# Altium schematic symbol library connector.SchLib: 56 symbols
Pins are listed as number, name and electrical type; pins without a type are passive.

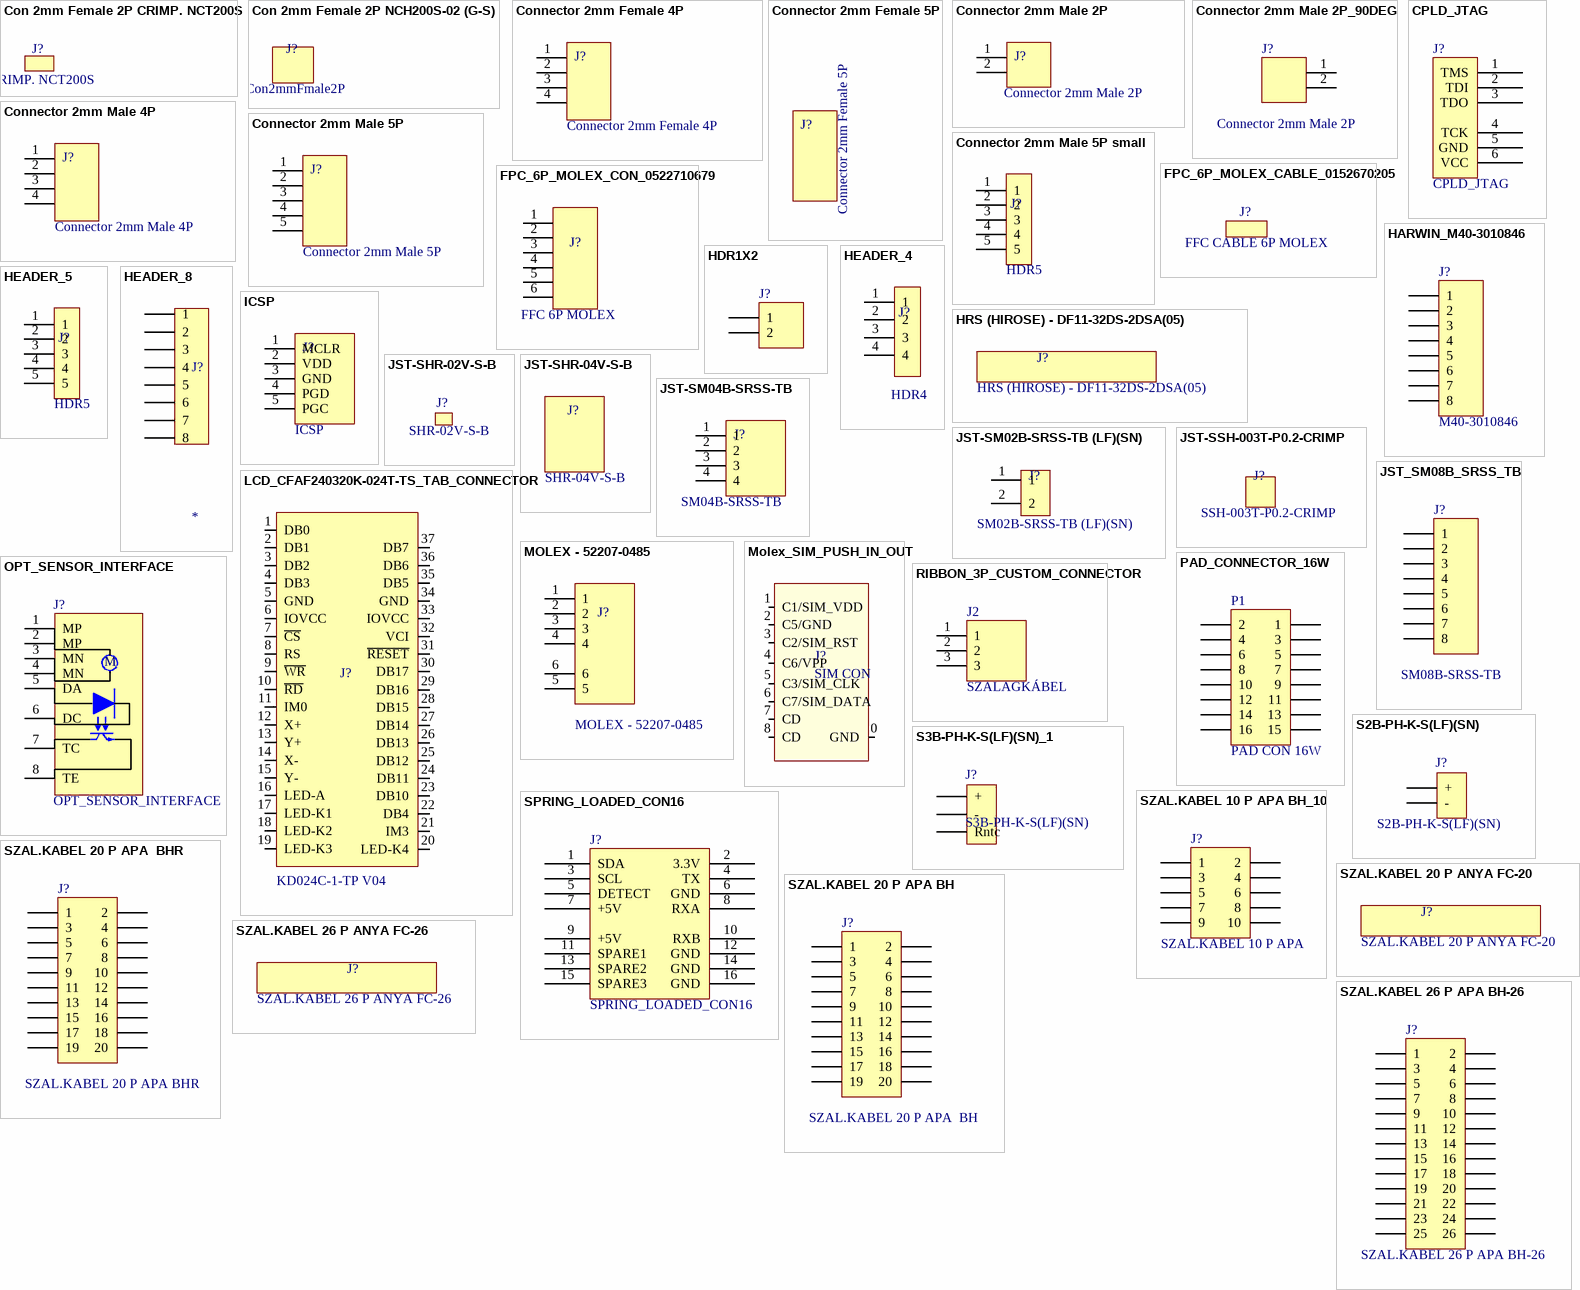
[diagram p0: symbols Con 2mm Female 2P CRIMP. NCT200S to SZAL.KABEL 26 P APA BH-26]

## Con 2mm Female 2P CRIMP. NCT200S
designator J?, comment CRIMP. NCT200S
TÁPCSATL. 2.00mm ANYA CRIMP. NCT200S-T2430 (G-S) AWG24-30 [43-00-25]; Distributor: Lomex; Order ID: 43-00-25; Price: 1.42; Value: CRIMP. NCT200S

## Con 2mm Female 2P NCH200S-02 (G-S)
designator J?  value Con2mmFmale2P  (hidden comment: Con 2mm Female 2P NCH200S-02 (G-S))
TÁPCSATL. 2.00mm 2P ANYA HÁZ NCH200S-02 (G-S) [43-17-34]; Distributor: Lomex; Order ID: 43-17-34; Price: 1.2

## Connector 2mm Female 4P
designator J?
TÁPCSATL. 2.00mm 4P APA 180° NCW200-04S (G-S) FORR. [43-16-05]; Distributor: Lomex; Order ID: 43-16-05; Price: 6.8; Value: Connector 2mm Female 4P
footprint HDR1X4_2MM
pins: 1, 2, 3, 4

## Connector 2mm Female 5P
designator J?
TÁPCSATL. 2.00mm 2P ANYA HÁZ NCH200S-05 (G-S) [43-00-26]; Distributor: Lomex; Order ID: 43-00-26; Price: 3; Value: Connector 2mm Female 5P

## Connector 2mm Male 2P
designator J?
TÁPCSATL. 2.00mm 2P APA 180° NCW200S-02S (G-S) FORR. [43-17-35]; Distributor: Lomex; Order ID: 43-17-35; Price: 2.5; Value: Connector 2mm Male 2P
footprint HDR1X2_2MM
pins: 1, 2

## Connector 2mm Male 2P_90DEG
designator J?, comment value Connector 2mm Male 2P  (hidden comment: Connector 2mm Male 2P_90)
TÁPCSATL. 2.00mm 2P APA 180° NCW200S-02S (G-S) FORR. [43-17-35]; Order ID: 9491856; Distributor: Farnell; Price: 35
footprint BAT_CON_90
pins: 1, 2

## Connector 2mm Male 4P
designator J?
TÁPCSATL. 2.00mm 4P APA 180° NCW200-04S (G-S) FORR. [43-16-05]; Distributor: Lomex; Order ID: 43-16-05; Price: 6.8; Value: Connector 2mm Male 4P
footprint HDR1X4_2MM
pins: 1, 2, 3, 4

## Connector 2mm Male 5P
designator J?
TÁPCSATL. 2.00mm 5P ANYA HÁZ NCH200S-05 (G-S) [43-00-26]; Distributor: Lomex; Order ID: 43-00-26; Price: 3; Value: Connector 2mm Male 5P
footprint HDR1X5_2MM
pins: 1, 2, 3, 4, 5

## Connector 2mm Male 5P small
designator J?  value HDR5  (hidden comment: *)
HEADER, 5 pins; Distributor: *; Order ID: *; Price: *
footprint HDR1X5_2MM_SMALL
pins: 1, 2, 3, 4, 5

## CPLD_JTAG
designator J?
Cpld jtag connector; Value: *; Distributor: *; Order ID: *; Price: *
footprint HDR1X6_2MM
footprint HDR1X6
pins: 1 TMS, 2 TDI, 3 TDO, 4 TCK, 5 GND, 6 VCC

## FPC_6P_MOLEX_CABLE_0152670205
designator J?  value FFC CABLE 6P MOLEX  (hidden comment: FPC_6P_MOLEX_CABLE_0152670205)
PREMO-FLEX 1.00 JMPR LGT 76 TYPE; Order ID: WM10537-ND; Distributor: Digikey; Price: 450

## FPC_6P_MOLEX_CON_0522710679
designator J?  value FFC 6P MOLEX  (hidden comment: FPC_6P_MOLEX_CON_0522710679)
CONN FPC BOTTOM 6POS 1.00MM R/A; Order ID: WM7955CT-ND; Distributor: Digikey; Price: 300
footprint FPC_6P_1MM_MOLEX (Molex FPC 6pin connector.)
pins: 1, 2, 3, 4, 5, 6

## HARWIN_M40-3010846
designator J?, comment M40-3010846
HARWIN - M40-3010846 - HEADER, VERTICAL, SMT, 8WAY; Order ID: 8729018; Distributor: Farnell; Price: 232; Value: M40-3010846
footprint HDR1X8
footprint HARVIN_M40_8WAY (8way header connector.)
pins: 1, 2, 3, 4, 5, 6, 7, 8
2 alternate drawings of the same symbol

## HDR1X2
designator J?  (value not drawn)
Header, 2-Pin
footprint HDR1X2 _2mm
pins: 1, 2
2 alternate drawings of the same symbol

## HEADER_4
designator J?  value HDR4  (hidden comment: *)
HEADER, 4 pins; Distributor: *; Order ID: *; Price: *
footprint HDR1X4
pins: 1, 2, 3, 4

## HEADER_5
designator J?  value HDR5  (hidden comment: *)
HEADER, 5 pins; Distributor: *; Order ID: *; Price: *
footprint HDR1X5
pins: 1, 2, 3, 4, 5

## HEADER_8
designator J?
Header, 8-Pin; Distributor: *; Order ID: *; Price: *; Value: *
footprint HDR1X8
footprint HDR1X8_1_6mm
pins: 1, 2, 3, 4, 5, 6, 7, 8
2 alternate drawings of the same symbol

## HRS (HIROSE) - DF11-32DS-2DSA(05)
designator J?
HRS (HIROSE) - DF11-32DS-2DSA(05) - RECEPTACLE, 2MM, 32WAY; Order ID: 1688332; Distributor: Farnell; Price: 494; Value: HRS (HIROSE) - DF11-32DS-2DSA(05)

## ICSP
designator J?  value ICSP  (hidden comment: *)
ICSP; Distributor: *; Order ID: *; Price: *
footprint HDR1X5
pins: 1 MCLR, 2 VDD, 3 GND, 4 PGD, 5 PGC

## JST-SHR-02V-S-B
designator J?  value SHR-02V-S-B  (hidden comment: *)
JST (JAPAN SOLDERLESS TERMINALS)  SHR-02V-S-B  CONNECTOR HOUSING, 2WAY; Order ID: 1679108; Distributor: Farnell; Price: 20

## JST-SHR-04V-S-B
designator J?  value SHR-04V-S-B  (hidden comment: *)
JST (JAPAN SOLDERLESS TERMINALS) - SHR-04V-S-B - CONNECTOR HOUSING, 4WAY; Order ID: 1679110; Distributor: Farnell; Price: 40

## JST-SM02B-SRSS-TB (LF)(SN)
designator J?  value SM02B-SRSS-TB (LF)(SN)  (hidden comment: *)
JST (JAPAN SOLDERLESS TERMINALS) - SM02B-SRSS-TB (LF)(SN) HEADER, SH, 2WAY, SIDE, 1MM, TIN; Order ID: 1679117; Distributor: Farnell; Price: 123
footprint JST-SM02B-SRSS-TB (4 way header connector.)
pins: 1, 2

## JST-SM04B-SRSS-TB
designator J?  value SM04B-SRSS-TB  (hidden comment: *)
JST (JAPAN SOLDERLESS TERMINALS) - SM04B-SRSS-TB - HEADER, SH, 4WAY, SIDE, 1MM, TIN; Order ID: 1830839; Distributor: Farnell; Price: 123
footprint JST-SM04B-SRSS-TB (4 way header connector.)
pins: 1, 2, 3, 4

## JST-SSH-003T-P0.2-CRIMP
designator J?  value SSH-003T-P0.2-CRIMP  (hidden comment: *)
JST (JAPAN SOLDERLESS TERMINALS) - SSH-003T-P0.2 - CRIMP TERMINAL, SH SERIES; Order ID: 1679142; Distributor: Farnell; Price: 20

## JST_SM08B_SRSS_TB
designator J?  value SM08B-SRSS-TB  (hidden comment: *)
JST (JAPAN SOLDERLESS TERMINALS) - SM08B-SRSS-TB(LF)(SN) - HEADER, R/A, 8WAY; Order ID: 1679124; Distributor: Farnell; Price: 210
footprint HDR1X8
footprint JST_SM08B_SRSS_TB (SM08B-SRSS-TB(LF)(SN) - HEADER, R/A, 8WAY)
pins: 1, 2, 3, 4, 5, 6, 7, 8
2 alternate drawings of the same symbol

## LCD_CFAF240320K-024T-TS_TAB_CONNECTOR
designator J?  value KD024C-1-TP V04  (hidden comment: *)
CFAF240320K-024T-TS LCD TAB_CONNECTOR; Manufacturer: Shenzhen Startek Electronic Technology Co.,Ltd; Distributor: http://en.lcdlcd.com/; Order ID: KD024C-1-TP V04; Price: 1700; webpage: http://en.lcdlcd.com/te_product_a/2012-02-23/1633.chtml
footprint LCD37P_TOP_STRAIGHT_TAB_CONNECTOR (CFAF240320K-024T-TS LCD TAB_CONNECTOR)
footprint LCD37P_BOTTOM_BACKCURVE_TAB_CONNECTOR (CFAF240320K-024T-TS LCD TAB_CONNECTOR)
pins: 1 DB0 (io), 2 DB1 (io), 3 DB2 (io), 4 DB3 (io), 5 GND (power), 6 IOVCC (power), 7 ~{CS} (in), 8 RS (in), 9 ~{WR} (in), 10 ~{RD} (in), 11 IM0 (in), 12 X+, 13 Y+, 14 X-, 15 Y-, 16 LED-A, 17 LED-K1, 18 LED-K2, 19 LED-K3, 20 LED-K4, 21 IM3 (in), 22 DB4 (io), 23 DB10 (io), 24 DB11 (io), 25 DB12 (io), 26 DB13 (io), 27 DB14 (io), 28 DB15 (io), 29 DB16 (io), 30 DB17 (io), 31 ~{RESET} (in), 32 VCI (power), 33 IOVCC (power), 34 GND (power), 35 DB5 (io), 36 DB6 (io), 37 DB7 (io)

## MOLEX - 52207-0485
designator J?  value MOLEX - 52207-0485  (hidden comment: *)
MOLEX - 52207-0485 - CONNECTOR, PCB, 4WAY FPC; Order ID: 1463013; Distributor: Farnell; Price: 210
footprint MOLEX - 52207-0485 (MOLEX - 52207-0485 FPC CONNECTOR, PCB, 4WAY)
pins: 1, 2, 3, 4, 5, 6

## Molex_SIM_PUSH_IN_OUT
designator J?, comment SIM CON
Molex, Sim connector, 0475531001, CONN CARD HOLDER SIM 6POS SMD; Order ID: WM6739DKR-ND; Distributor: Digikey; Price: 750; Value: SIM CONNECTOR
footprint Molex_0475531001 (Molex sim connector, without sim present pin)
pins: 0 GND, 1 C1/SIM_VDD, 2 C5/GND, 3 C2/SIM_RST, 4 C6/VPP, 5 C3/SIM_CLK, 6 C7/SIM_DATA, 7 CD, 8 CD

## OPT_SENSOR_INTERFACE
designator J?
JST (JAPAN SOLDERLESS TERMINALS) - SM08B-SRSS-TB(LF)(SN) - HEADER, R/A, 8WAY, OPT_SENSOR_INTERFACE; Order ID: 1679124; Distributor: Farnell; Price: 250; Value: HEADER, R/A, 8WAY
footprint JST_SM08B_SRSS_TB (SM08B-SRSS-TB(LF)(SN) - HEADER, R/A, 8WAY)
pins: 1 MP, 2 MP, 3 MN, 4 MN, 5 DA, 6 DC, 7 TC, 8 TE
2 alternate drawings of the same symbol
text: M

## PAD_CONNECTOR_16W
designator P1, comment PAD CON 16W
802-10-016-30-507101 ---- PRECIDIP; Order ID: 702-0464; Value: PAD CON 16W; Distributor: RS; Price: 700
footprint PAD_CONNECTOR_16W (CCM PreciDIP connector)
pins: 1, 2, 3, 4, 5, 6, 7, 8, 9, 10, 11, 12, 13, 14, 15, 16

## RIBBON_3P_CUSTOM_CONNECTOR
designator J2, comment SZALAGKÁBEL
SZALAGKÁBEL 30x(7x0.127mm) FC050-30G AWG28 GREY 1/2# (30.5 fm) [54-00-73]; Value: SZALAGKÁBEL, attention1 enough forever!; Distributor: Lomex; Order ID: 54-00-73; Price: 3.10
footprint RIBBON_CABLE_CON_3P (Footprint not found)
pins: 1, 2, 3

## S2B-PH-K-S(LF)(SN)
designator J?
CONN HEADER PH SIDE 2POS 2MM (battery con); Order ID: 455-1719-ND; Distributor: Digikey; Price: 35.6; Value: S2B-PH-K-S(LF)(SN)
footprint BAT_CON (S2B-PH-K-S)
pins: 1 +, 2 -

## S3B-PH-K-S(LF)(SN)_1
designator J?, comment S3B-PH-K-S(LF)(SN)
JST (JAPAN SOLDERLESS TERMINALS) - S3B-PH-K-S (LF)(SN) - CONNECTOR, HEADER, THT, R/A, 2MM, 3WAY; Order ID: 455-1720-ND; Distributor: Digikey; Price: 38; Value: S3B-PH-K-S(LF)(SN)
footprint BAT_CON_3P (S3B-PH-K-S)
pins: 1 +, 2 -, 3 Rntc

## SPRING_LOADED_CON16
designator J?
16w spring loaded conn 2.54mm D/R solder; Order ID: 702-0562; Value: 813-S1-016-10-017101; Distributor: RS; Price: 1700
footprint SPRING_CON_16P
pins: 1 SDA, 2 3.3V, 3 SCL, 4 TX, 5 DETECT, 6 GND, 7 +5V, 8 RXA, 9 +5V, 10 RXB, 11 SPARE1, 12 GND, 13 SPARE2, 14 GND, 15 SPARE3, 16 GND

## SZAL.KABEL 10 P APA BH_10
designator J?  value SZAL.KABEL 10 P APA  (hidden comment: SZAL.KABEL 10 P APA BH_10)
SZAL.KABEL 10 P APA BH-10 (T-T) [43-00-51]; Distributor: Lomex; Order ID: 43-00-51; Price: 15
footprint SZAL_KABEL_10P_APA
pins: 1, 2, 3, 4, 5, 6, 7, 8, 9, 10

## SZAL.KABEL 20 P ANYA FC-20
designator J?
SZAL.KABEL 20 P ANYA FC-20 (T-T) TEHERMENTESITÕVEL LENGÕ [43-01-10]; Distributor: Lomex; Order ID: 43-01-10; Price: 28; Value: SZAL.KABEL 20 P ANYA FC-20

## SZAL.KABEL 20 P APA  BHR
designator J?  value SZAL.KABEL 20 P APA BHR  (hidden comment: SZAL.KABEL 20 P APA  BHR)
SZAL.KABEL 20 P APA 90° BHR-20 (T-T) [43-01-11]; Distributor: Lomex; Order ID: 43-01-11; Price: 37,70
footprint SZAL_KABEL_20P_APA 90
pins: 1, 2, 3, 4, 5, 6, 7, 8, 9, 10, 11, 12, 13, 14, 15, 16, 17, 18, 19, 20

## SZAL.KABEL 20 P APA BH
designator J?  value SZAL.KABEL 20 P APA  BH  (hidden comment: SZAL.KABEL 20 P APA BH)
SZAL.KABEL 20 P APA BH-20 (T-T) [43-01-71]; Distributor: Lomex; Order ID: 43-01-71; Price: 19,44
footprint SZAL_KABEL_20P_APA
pins: 1, 2, 3, 4, 5, 6, 7, 8, 9, 10, 11, 12, 13, 14, 15, 16, 17, 18, 19, 20

## SZAL.KABEL 26 P ANYA FC-26
designator J?
SZAL.KABEL 26 P ANYA FC-26 (T-T) LENGÕ TEHERMENTESITÕVEL [43-00-60]; Distributor: Lomex; Order ID: 43-00-60; Price: 29; Value: SZAL.KABEL 26 P ANYA FC-26

## SZAL.KABEL 26 P APA BH-26
designator J?
SZAL.KABEL 26 P APA BH-26 (T-T) [43-01-72]; Distributor: Lomex; Order ID: 43-01-72; Price: 22,2; Value: SZAL.KABEL 26 P APA BH-26
footprint SZAL_KABEL_26P_APA
pins: 1, 2, 3, 4, 5, 6, 7, 8, 9, 10, 11, 12, 13, 14, 15, 16, 17, 18, 19, 20, 21, 22, 23, 24, 25, 26

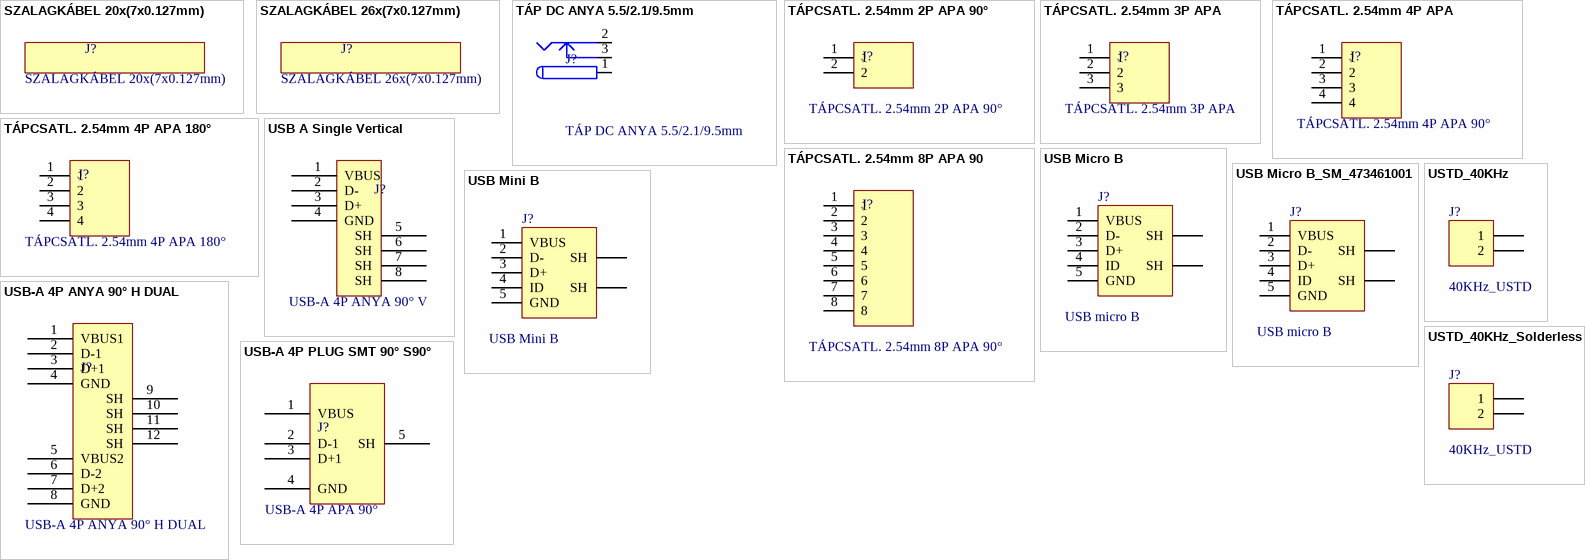
[diagram p1: symbols SZALAGKÁBEL 20x(7x0.127mm) to USTD_40KHz_Solderless]

## SZALAGKÁBEL 20x(7x0.127mm)
designator J?
SZALAGKÁBEL 20x(7x0.127mm) FC050-20G AWG28 GREY 1/2# (30.5 fm) [54-00-26]; Distributor: Lomex; Order ID: 54-00-26; Price: 123; Value: SZALAGKÁBEL 20x(7x0.127mm)

## SZALAGKÁBEL 26x(7x0.127mm)
designator J?
SZALAGKÁBEL 26x(7x0.127mm) FC050-26G AWG28 GREY 1/2# (30.5 fm) [54-00-27]; Distributor: Lomex; Order ID: 54-00-27; Price: 162; Value: SZALAGKÁBEL 26x(7x0.127mm)

## TÁP DC ANYA 5.5/2.1/9.5mm
designator J?
TÁP DC ANYA 5.5/2.1/9.5mm DCS-5521-5 (G-S) NYÁK 90° [43-07-67]; Distributor: Lomex; Order ID: 43-07-67; Price: 30.76; Value: TÁP DC ANYA 5.5/2.1/9.5mm
footprint KLD-0202_Short
pins: 1 (power), 2 (power), 3 (power)

## TÁPCSATL. 2.54mm 2P APA 90°
designator J?  value TÁPCSATL. 2.54mm 2P APA 90°  (hidden comment: *)
TÁPCSATL. 2.54mm 2P APA 90° REVERSE NCW254-02RR (G-S) FORR. [43-18-02]; Distributor: Lomex; Order ID: 43-18-02; Price: 3.10
footprint HDR1X2H_with_lock
pins: 1, 2

## TÁPCSATL. 2.54mm 3P APA
designator J?  value TÁPCSATL. 2.54mm 3P APA  (hidden comment: *)
TÁPCSATL. 2.54mm 3P APA 180° NCW254-03S (G-S) FORR. [43-08-96]; Distributor: Lomex; Order ID: 43-08-96; Price: 3.10
footprint HDR1X3_WITH_LOCK (Header, Vertical, with Friction Lock)
pins: 1, 2, 3

## TÁPCSATL. 2.54mm 4P APA
designator J?  value TÁPCSATL. 2.54mm 4P APA 90°  (hidden comment: *)
TÁPCSATL. 2.54mm 4P APA 90° NCW254-04R (G-S) FORR. [43-09-96]; Distributor: Lomex; Order ID: 43-09-96; Price: 6.30
footprint HDR1X4_WITH_LOCK_90 (Header, Horizontal with Friction Lock)
pins: 1, 2, 3, 4

## TÁPCSATL. 2.54mm 4P APA 180°
designator J?  value TÁPCSATL. 2.54mm 4P APA 180°  (hidden comment: *)
TÁPCSATL. 2.54mm 4P APA 180° NCW254-04S (G-S) FORR. [43-08-97]; Distributor: Lomex; Order ID: 43-08-97; Price: 5.20
footprint HDR1X4_WITH_LOCK (Header, Vertical, with Friction Lock)
pins: 1, 2, 3, 4

## TÁPCSATL. 2.54mm 8P APA 90
designator J?  value TÁPCSATL. 2.54mm 8P APA 90°  (hidden comment: *)
TÁPCSATL. 2.54mm 8P APA 90° NCW254-08R (G-S) FORR. [43-09-99]; Distributor: Lomex; Order ID: 43-09-99; Price: 11.46
footprint HDR1X8_WITH_LOCK_90
pins: 1, 2, 3, 4, 5, 6, 7, 8

## USB A Single Vertical
designator J?  value USB-A 4P ANYA 90° V  (hidden comment: USB A Single Vertical)
USB-A 4P ANYA 90° V USB-A04FV-S (T-T) VERTICAL PCB FEMALE NYÁK 90° [43-14-74]; Distributor: Lomex; Order ID: 43-14-74; Price: 59.40
footprint USB TYPE A VERTICAL
pins: 1 VBUS, 2 D-, 3 D+, 4 GND, 5 SH, 6 SH, 7 SH, 8 SH

## USB Micro B
designator J?  value USB micro B  (hidden comment: *)
MOLEX - 548190519 - MINI USB TYPE B, RECEPTACLE, THT; Order ID: WM11263CT-ND; Distributor: Digikey; Price: 260
footprint USB MICRO-B THOLE_MOLEX
pins: 0 SH, 0 SH, 1 VBUS, 2 D-, 3 D+, 4 ID, 5 GND
2 alternate drawings of the same symbol

## USB Micro B_SM_473461001
designator J?  value USB micro B  (hidden comment: *)
MOLEX - 548190519 - MINI USB TYPE B, RECEPTACLE, THT; Order ID: 538-47346-1001; Distributor: Mouser; Price: 260
footprint USB MICRO-B TOP_SM_MOLEX_47346-0001 (Molex top side, smd, micro usb B.)
pins: 0 SH, 0 SH, 1 VBUS, 2 D-, 3 D+, 4 ID, 5 GND
2 alternate drawings of the same symbol

## USB Mini B
designator J?  value USB Mini B  (hidden comment: *)
MOLEX - 548190519 - MINI USB TYPE B, RECEPTACLE, THT; Order ID: 9786465; Distributor: Farnell; Price: 482
footprint USB MINI-B THOLE_MOLEX
pins: 0 SH, 0 SH, 1 VBUS, 2 D-, 3 D+, 4 ID, 5 GND
2 alternate drawings of the same symbol

## USB-A 4P ANYA 90° H DUAL
designator J?  value USB-A 4P ANYA 90° H DUAL
USB-A 4P ANYA 90° H DUAL 5787617-1 (TYC) HORIZONTAL PCB FEMALE NYÁK 90° [43-16-25]; Distributor: Lomex; Order ID: 43-16-25; Price: 324
footprint USB DUAL SOCKET (USB-A 4P FEMALE 90° H DUAL HORIZONTAL)
pins: 1 VBUS1, 2 D-1, 3 D+1, 4 GND, 5 VBUS2, 6 D-2, 7 D+2, 8 GND, 9 SH, 10 SH, 11 SH, 12 SH

## USB-A 4P PLUG SMT 90° S90°
designator J?  value USB-A 4P APA 90°
USB-A 4P APA 90° H USB-A04MSMD-LP (T-T) LOW PROFILE SMD MALE [43-12-12]; Distributor: Lomex; Order ID: 43-12-12; Price: 44
footprint USB A PLUG 90° STAND ON PCB
pins: 1 VBUS, 2 D-1, 3 D+1, 4 GND, 5 SH

## USTD_40KHz
designator J?  value 40KHz_USTD  (hidden comment: *)
40Khz Ultrasonic transducer; Distributor: HopeSound; Order ID: ?; Price: ?
footprint TRANSDUCER_PORT
signal-integrity model Connector
pins: 1, 2

## USTD_40KHz_Solderless
designator J?  value 40KHz_USTD  (hidden comment: *)
40Khz Ultrasonic transducer; Distributor: HopeSound; Order ID: ?; Price: ?
footprint TRANSDUCER_PORT_SOLDERLESS (TRANSDUCER_PORT)
signal-integrity model Connector
pins: 1, 2